# Altium footprint library LightPipeRB1.PcbLib: 1 footprints
Each footprint in its own frame and in the unit in brackets; x right, y up, seen from the top. Pads: shape width x height; smd on the part's side, far side on the other; paste and mask are expansions set on the pad; w line width, h text height; cw(c..) or ccw(c..) is an arc to the next point about the centre after c.
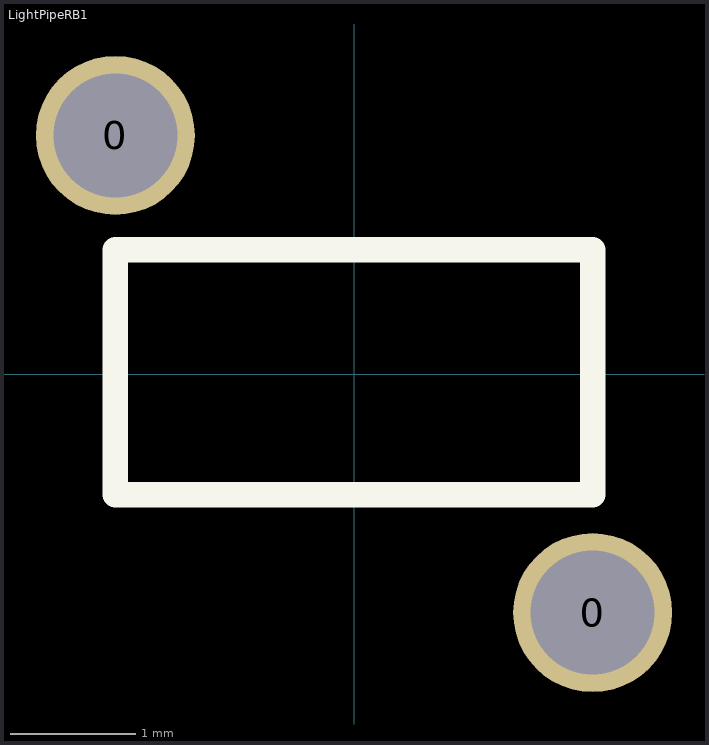
[diagram p0: the footprint, top view; thin cyan lines are the x and y axes]

## LightPipeRB1 [mil] "Light Pipe RA"
pads (2):
  round 50 hole 39: 0(-75,75) 0(75,-75)
Top Overlay:
  lines w8: -75,-38 75,-38 75,39 -75,39 -75,-38
3D body: height 177, standoff 0, extent -100,-100 79,43
3D body: height 177, standoff 0, extent -100,-100 100,100
3D body: height 884, standoff 177, extent -59.03,-59.88 60.5,59.88
3D body: height 177, standoff 79, extent -100,-100 101,100
3D body: height 0, standoff -98, extent 55.66,-94.46 94.51,-55.53
3D body: height 0, standoff -98, extent -94.34,55.54 -55.49,94.47